# EAGLE library part ADV7123 (library Traficon)
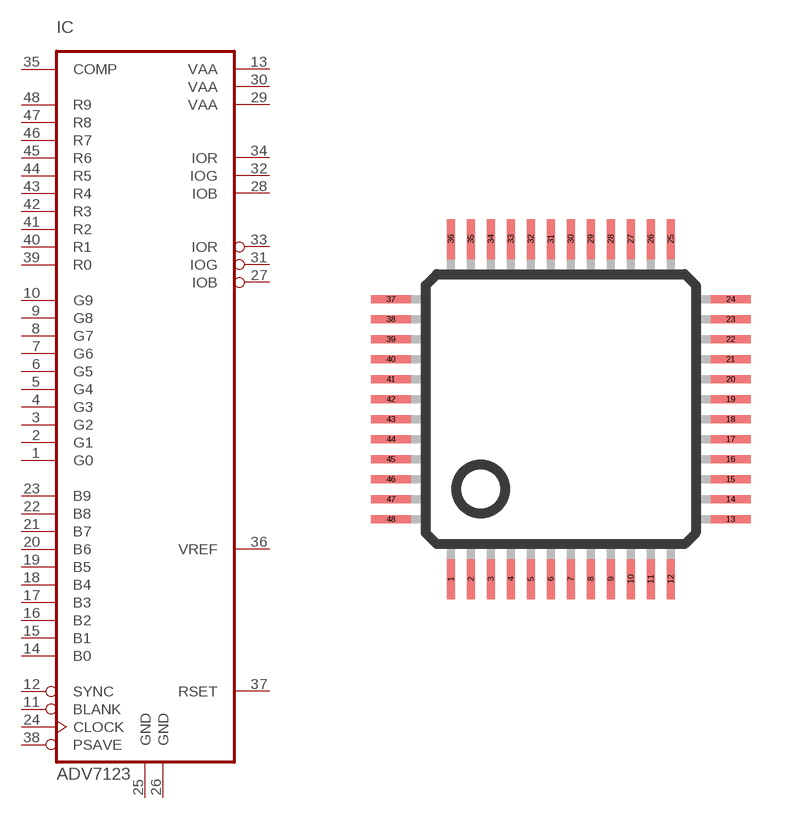
[diagram p68: symbol with the pads of LQFP48; footprint LQFP48]

Designator prefix IC

## ADV7123  [LQFP48]
1  G0
2  G1
3  G2
4  G3
5  G4
6  G5
7  G6
8  G7
9  G8
10  G9
11  BLANK
12  SYNC
13  VAA
14  B0
15  B1
16  B2
17  B3
18  B4
19  B5
20  B6
21  B7
22  B8
23  B9
24  CLOCK
25  GND
26  GND
27  IOB
28  IOB
29  VAA
30  VAA
31  IOG
32  IOG
33  IOR
34  IOR
35  COMP
36  VREF
37  RSET
38  PSAVE
39  R0
40  R1
41  R2
42  R3
43  R4
44  R5
45  R6
46  R7
47  R8
48  R9

## Footprint LQFP48 (pad centres in mm)
48-pin plastic LQFP (FPT-48P-M26) www.fma.fujitsu.com/pdf/e713717.pdf
smd 0.2 x 1: 1 -2.75,-4.25; 2 -2.25,-4.25; 3 -1.75,-4.25; 4 -1.25,-4.25; 5 -0.75,-4.25; 6 -0.25,-4.25; 7 0.25,-4.25; 8 0.75,-4.25; 9 1.25,-4.25; 10 1.75,-4.25; 11 2.25,-4.25; 12 2.75,-4.25; 25 2.75,4.25; 26 2.25,4.25; 27 1.75,4.25; 28 1.25,4.25; 29 0.75,4.25; 30 0.25,4.25; 31 -0.25,4.25; 32 -0.75,4.25; 33 -1.25,4.25; 34 -1.75,4.25; 35 -2.25,4.25; 36 -2.75,4.25
smd 1 x 0.2: 13 4.25,-2.75; 14 4.25,-2.25; 15 4.25,-1.75; 16 4.25,-1.25; 17 4.25,-0.75; 18 4.25,-0.25; 19 4.25,0.25; 20 4.25,0.75; 21 4.25,1.25; 22 4.25,1.75; 23 4.25,2.25; 24 4.25,2.75; 37 -4.25,2.75; 38 -4.25,2.25; 39 -4.25,1.75; 40 -4.25,1.25; 41 -4.25,0.75; 42 -4.25,0.25; 43 -4.25,-0.25; 44 -4.25,-0.75; 45 -4.25,-1.25; 46 -4.25,-1.75; 47 -4.25,-2.25; 48 -4.25,-2.75